# EAGLE library part RF100-JACK (library 0_jc-custom-eagle6)
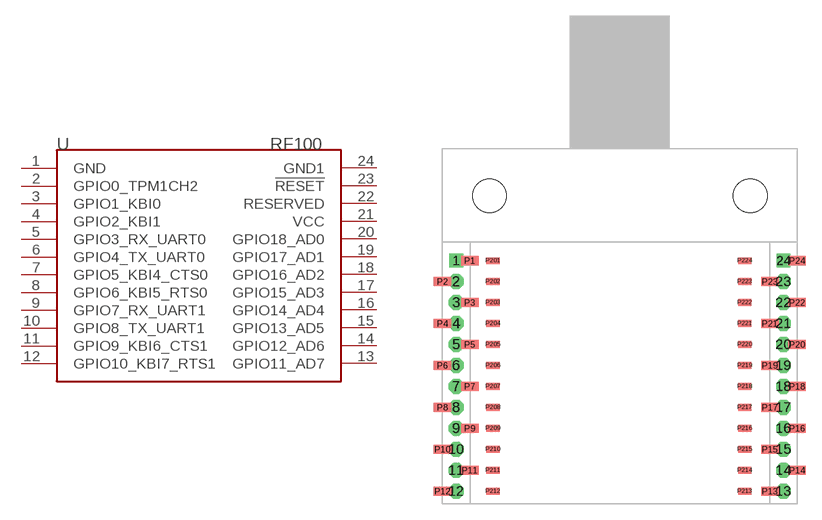
[diagram p18: symbol with the pads of SYNAPSERFENGINE-THM-SMT-JACK2; footprint SYNAPSERFENGINE-THM-SMT-JACK2]

Designator prefix -

## RF100-JACKJACK2  [SYNAPSERFENGINE-THM-SMT-JACK2]
1  GND
2  GPIO0_TPM1CH2
3  GPIO1_KBI0
4  GPIO2_KBI1
5  GPIO3_RX_UART0
6  GPIO4_TX_UART0
7  GPIO5_KBI4_CTS0
8  GPIO6_KBI5_RTS0
9  GPIO7_RX_UART1
10  GPIO8_TX_UART1
11  GPIO9_KBI6_CTS1
12  GPIO10_KBI7_RTS1
13  GPIO11_AD7
14  GPIO12_AD6
15  GPIO13_AD5
16  GPIO14_AD4
17  GPIO15_AD3
18  GPIO16_AD2
19  GPIO17_AD1
20  GPIO18_AD0
21  VCC
22  RESERVED
23  !RESET
24  GND1
P1  P$25
P2  P$26
P3  P$27
P4  P$28
P5  P$29
P6  P$30
P7  P$31
P8  P$32
P9  P$33
P10  P$34
P11  P$35
P12  P$36
P13  P$37
P14  P$38
P15  P$39
P16  P$40
P17  P$41
P18  P$42
P19  P$43
P20  P$44
P21  P$45
P22  P$46
P23  P$47
P24  P$48
P201  P$1
P202  P$2
P203  P$3
P204  P$4
P205  P$5
P206  P$6
P207  P$7
P208  P$8
P209  P$9
P210  P$10
P211  P$11
P212  P$12
P213  P$13
P214  P$14
P215  P$15
P216  P$16
P217  P$17
P218  P$18
P219  P$19
P220  P$20
P221  P$21
P222  P$22
P223  P$23
P224  P$24

## Footprint SYNAPSERFENGINE-THM-SMT-JACK2 (pad centres in mm)
RF Engine Form Factor Allows for SMT or Through hole headers. Production Proven
drill 0.8 square: 1 0,0; 24 31.2,0
drill 0.8 pad 1.422 octagon: 2 0,-2; 3 0,-4; 4 0,-6; 5 0,-8; 6 0,-10; 7 0,-12; 8 0,-14; 9 0,-16; 10 0,-18; 11 0,-20; 12 0,-22; 13 31.2,-22; 14 31.2,-20; 15 31.2,-18; 16 31.2,-16; 17 31.2,-14; 18 31.2,-12; 19 31.2,-10; 20 31.2,-8; 21 31.2,-6; 22 31.2,-4; 23 31.2,-2
smd 1.67 x 0.89: P1 1.3,0; P2 -1.3,-2; P3 1.3,-4; P4 -1.3,-6; P5 1.3,-8; P6 -1.3,-10; P7 1.3,-12; P8 -1.3,-14; P9 1.3,-16; P10 -1.3,-18; P11 1.3,-20; P12 -1.3,-22; P13 29.9,-22; P14 32.5,-20; P15 29.9,-18; P16 32.5,-16; P17 29.9,-14; P18 32.5,-12; P19 29.9,-10; P20 32.5,-8; P21 29.9,-6; P22 32.5,-4; P23 29.9,-2; P24 32.5,0
smd 1.27 x 0.635: P201 3.5,0; P202 3.5,-2; P203 3.5,-4; P204 3.5,-6; P205 3.5,-8; P206 3.5,-10; P207 3.5,-12; P208 3.5,-14; P209 3.5,-16; P210 3.5,-18; P211 3.5,-20; P212 3.5,-22; P213 27.5,-22; P214 27.5,-20; P215 27.5,-18; P216 27.5,-16; P217 27.5,-14; P218 27.5,-12; P219 27.5,-10; P220 27.5,-8; P221 27.5,-6; P222 27.5,-4; P223 27.5,-2; P224 27.5,0
hole 3.2 at 3.17,6.16
hole 3.2 at 28.03,6.16